# Altium schematic symbol library board.SchLib: 2 symbols
Pins are listed as number, name and electrical type; pins without a type are passive.

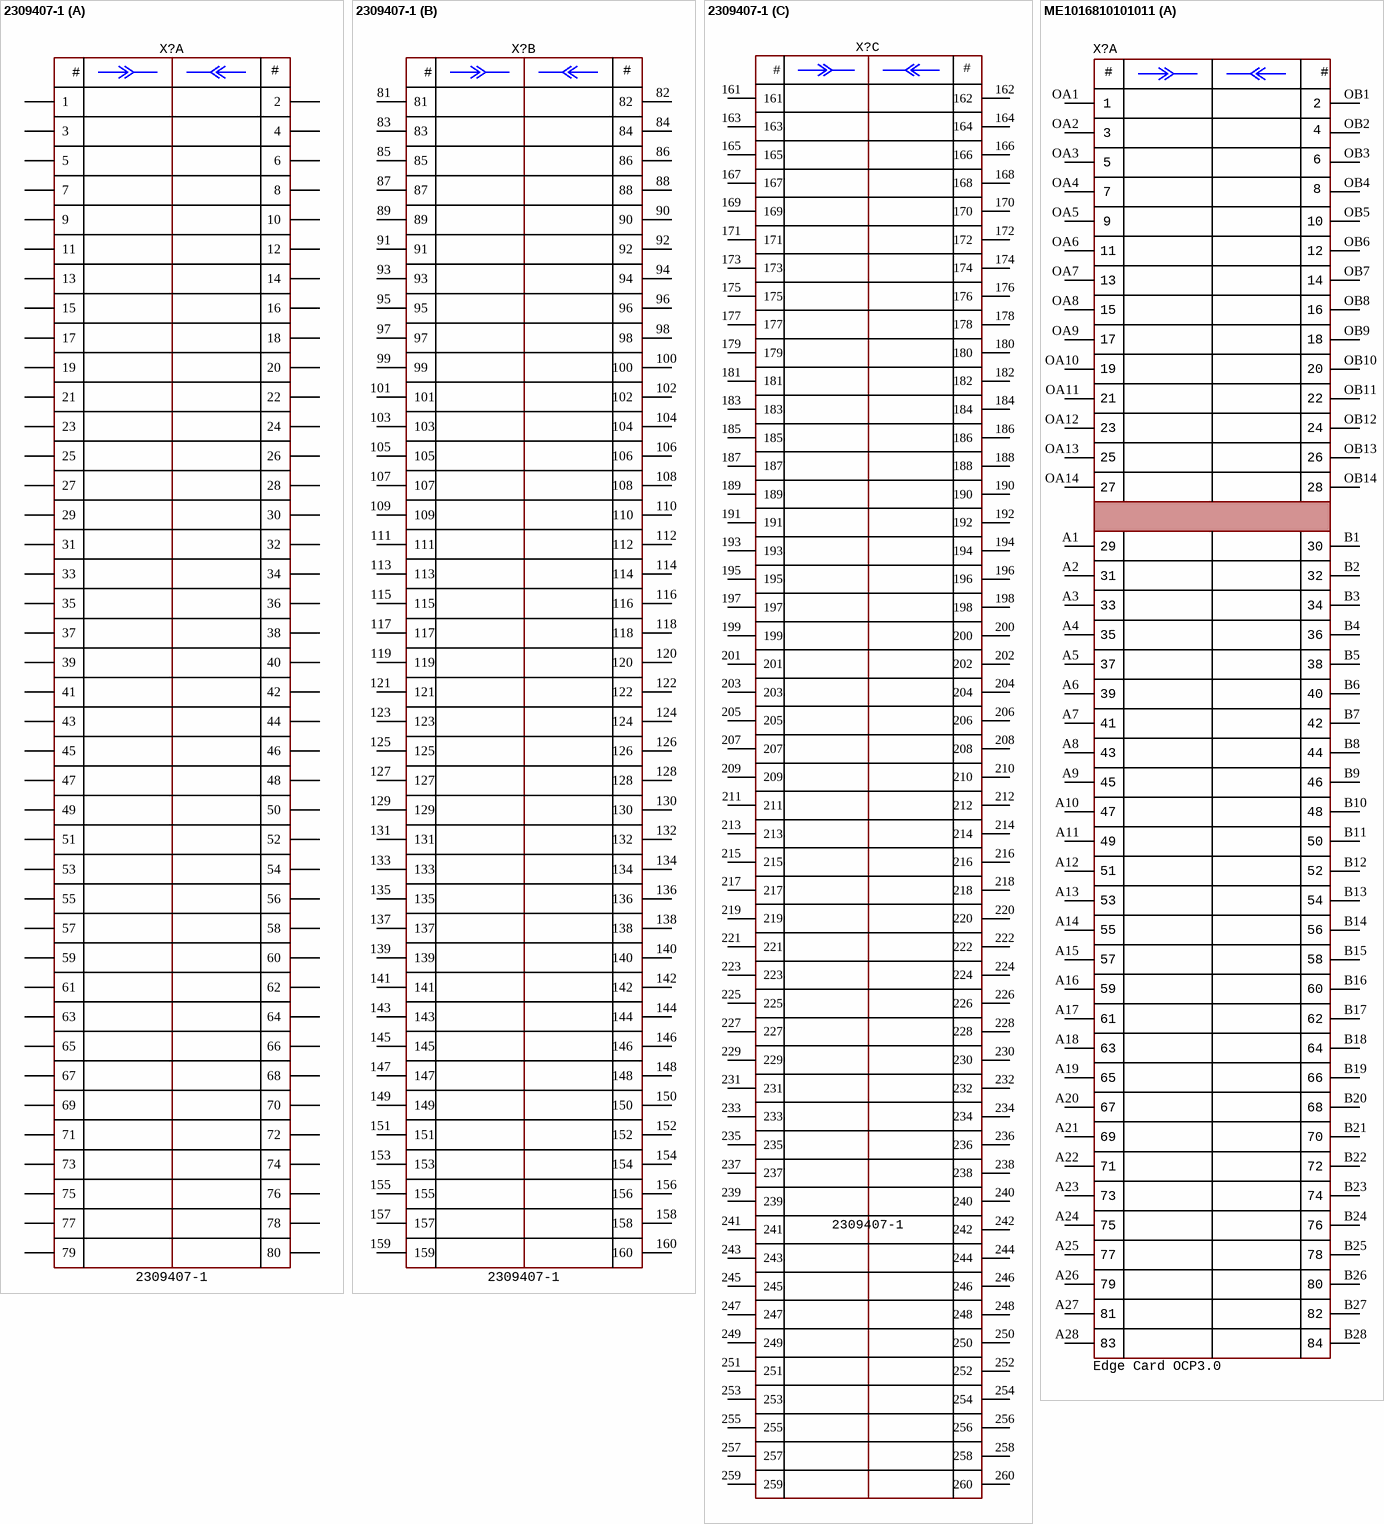
[diagram p0: symbols 2309407-1 to ME1016810101011]

## 2309407-1
designator X?
SODIMM DDR4, 260 pins, pitch 0.5 mm, 0.5A/pin, Right Angle, -55...+85C; Manufacturer: TE connectivity; Pitch: 0.5mm; HelpURL: https://www.digikey.com/en/products/detail/te-connectivity-amp-connectors/2309407-1/7793534; Manufacturer: TE Connectivity; Manufacturer Part Number: 2309407-1; Component Type: Connectors; PartNumber: 2309407-1
footprint BOARD: SODIMM260 (DDR4)
part A pins: 1, 2, 3, 4, 5, 6, 7, 8, 9, 10, 11, 12, 13, 14, 15, 16, 17, 18, 19, 20, 21, 22, 23, 24, 25, 26, 27, 28, 29, 30, 31, 32, 33, 34, 35, 36, 37, 38, 39, 40, 41, 42, 43, 44, 45, 46, 47, 48, 49, 50, 51, 52, 53, 54, 55, 56, 57, 58, 59, 60, 61, 62, 63, 64, 65, 66, 67, 68, 69, 70, 71, 72, 73, 74, 75, 76, 77, 78, 79, 80
part B pins: 81, 82, 83, 84, 85, 86, 87, 88, 89, 90, 91, 92, 93, 94, 95, 96, 97, 98, 99, 100, 101, 102, 103, 104, 105, 106, 107, 108, 109, 110, 111, 112, 113, 114, 115, 116, 117, 118, 119, 120, 121, 122, 123, 124, 125, 126, 127, 128, 129, 130, 131, 132, 133, 134, 135, 136, 137, 138, 139, 140, 141, 142, 143, 144, 145, 146, 147, 148, 149, 150, 151, 152, 153, 154, 155, 156, 157, 158, 159, 160
part C pins: 161, 162, 163, 164, 165, 166, 167, 168, 169, 170, 171, 172, 173, 174, 175, 176, 177, 178, 179, 180, 181, 182, 183, 184, 185, 186, 187, 188, 189, 190, 191, 192, 193, 194, 195, 196, 197, 198, 199, 200, 201, 202, 203, 204, 205, 206, 207, 208, 209, 210, 211, 212, 213, 214, 215, 216, 217, 218, 219, 220, 221, 222, 223, 224, 225, 226, 227, 228, 229, 230, 231, 232, 233, 234, 235, 236, 237, 238, 239, 240, 241, 242, 243, 244, 245, 246, 247, 248, 249, 250, 251, 252, 253, 254, 255, 256, 257, 258, 259, 260
part A text: #
part B text: #
part C text: #

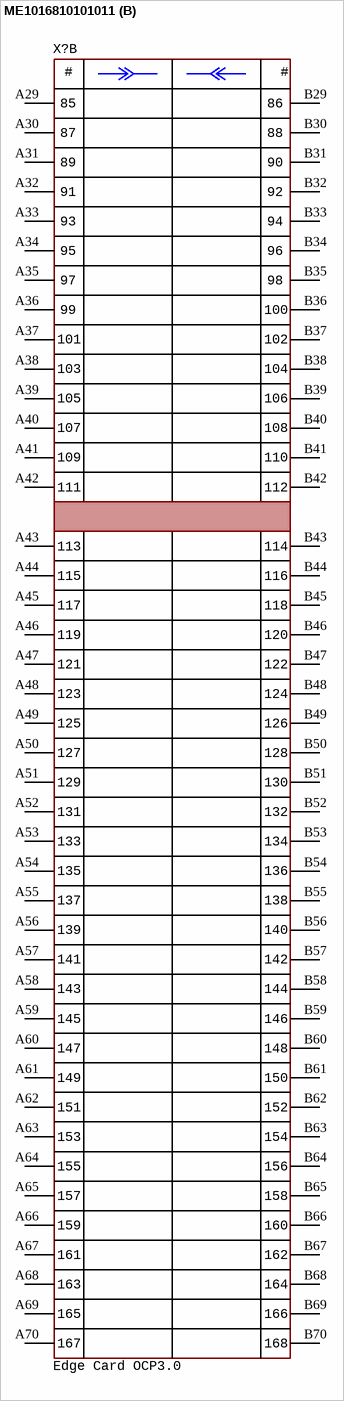
[diagram p1: symbol ME1016810101011]

## ME1016810101011
designator X?, comment Edge Card OCP3.0
GENZ, Edge Card OCP 3.0, 168 pins, pitch 0.6 mm; PartNumber: ME1016810101011; Manufacturer: Amphenol; Manufacturer: AMPHENOL ICC (FCI); HelpURL: https://www.amphenol-icc.com/mini-cool-edge-0-60mm-me1016810101011.html; Package: OCP 3.0; Manufacturer Part Number: ME1016810101011; Component Type: Card Edge Board
footprint BOARD: ME1016810101011 (OCP 3.0, GENZ)
part A pins: A1, A2, A3, A4, A5, A6, A7, A8, A9, A10, A11, A12, A13, A14, A15, A16, A17, A18, A19, A20, A21, A22, A23, A24, A25, A26, A27, A28, B1, B2, B3, B4, B5, B6, B7, B8, B9, B10, B11, B12, B13, B14, B15, B16, B17, B18, B19, B20, B21, B22, B23, B24, B25, B26, B27, B28, OA1, OA2, OA3, OA4, OA5, OA6, OA7, OA8, OA9, OA10, OA11, OA12, OA13, OA14, OB1, OB2, OB3, OB4, OB5, OB6, OB7, OB8, OB9, OB10, OB11, OB12, OB13, OB14
part B pins: A29, A30, A31, A32, A33, A34, A35, A36, A37, A38, A39, A40, A41, A42, A43, A44, A45, A46, A47, A48, A49, A50, A51, A52, A53, A54, A55, A56, A57, A58, A59, A60, A61, A62, A63, A64, A65, A66, A67, A68, A69, A70, B29, B30, B31, B32, B33, B34, B35, B36, B37, B38, B39, B40, B41, B42, B43, B44, B45, B46, B47, B48, B49, B50, B51, B52, B53, B54, B55, B56, B57, B58, B59, B60, B61, B62, B63, B64, B65, B66, B67, B68, B69, B70
part A text: #; 1; 2; 3; 4; 5; 6; 7; 8; 9; 10; 11; 12; 13; 14; 15; 16; 17; 18; 19; 20; 21; 22; 23; 24; 25; 26; 27; 28; 29; 30; 31; 32; 33; 34; 35; 36; 37; 38; 39; 40; 41; 42; 43; 44; 45; 46; 47; 48; 49; 50; 51; 52; 53; 54; 55; 56; 57; 58; 59; 60; 61; 62; 63; 64; 65; 66; 67; 68; 69; 70; 71; 72; 73; 74; 75; 76; 77; 78; 79; 80; 81; 82; 83; 84
part B text: #; 85; 86; 87; 88; 89; 90; 91; 92; 93; 94; 95; 96; 97; 98; 99; 100; 101; 102; 103; 104; 105; 106; 107; 108; 109; 110; 111; 112; 113; 114; 115; 116; 117; 118; 119; 120; 121; 122; 123; 124; 125; 126; 127; 128; 129; 130; 131; 132; 133; 134; 135; 136; 137; 138; 139; 140; 141; 142; 143; 144; 145; 146; 147; 148; 149; 150; 151; 152; 153; 154; 155; 156; 157; 158; 159; 160; 161; 162; 163; 164; 165; 166; 167; 168